# Altium footprint library People Counter.PcbLib: 40 footprints (part 2 of 3)
Each footprint in its own frame and in the unit in brackets; x right, y up, seen from the top. Pads: shape width x height; smd on the part's side, far side on the other; paste and mask are expansions set on the pad; w line width, h text height; cw(c..) or ccw(c..) is an arc to the next point about the centre after c.
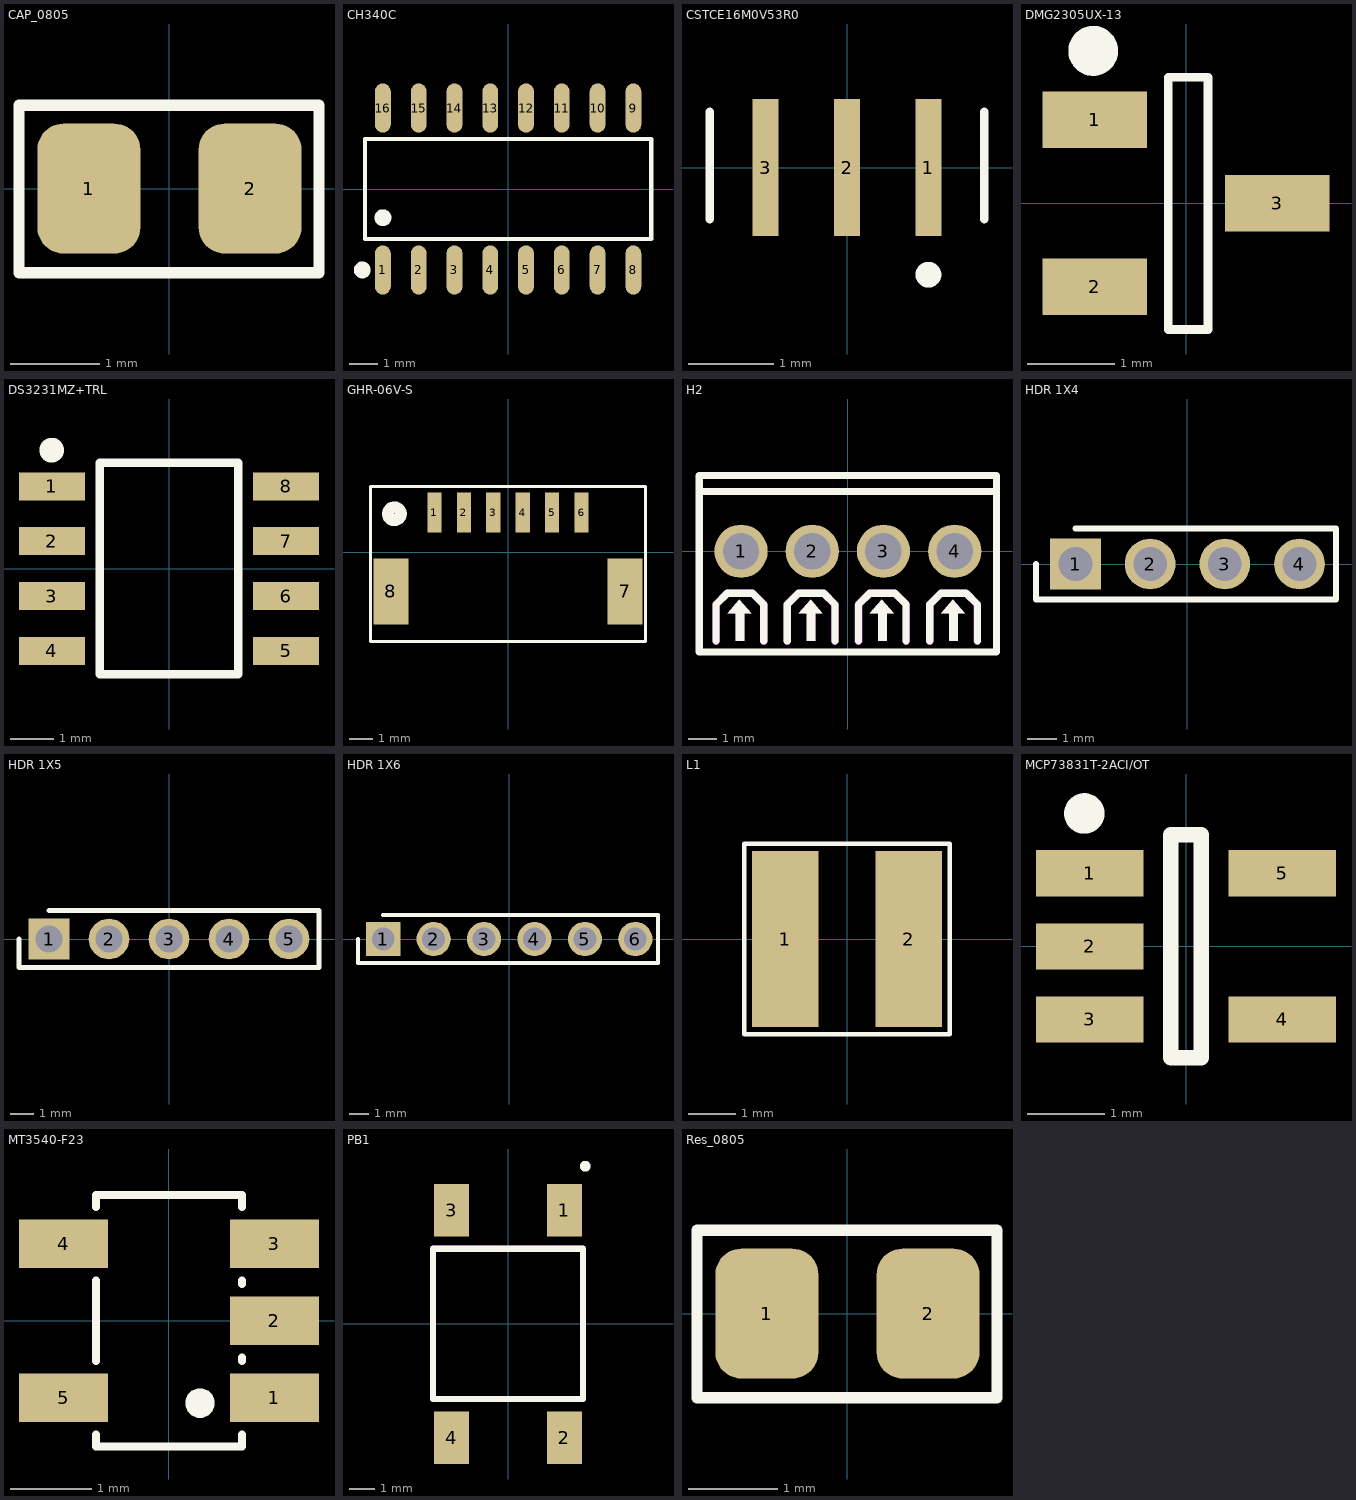
[diagram p1: the footprints below, top view; thin cyan lines are the x and y axes]

## CAP_0805 [mm]
pads (2):
  rrect50% 1.15x1.45 smd: 1(-0.9,0) 2(0.9,0)
Top Overlay:
  lines w0.127: -1.68,-0.94 -1.68,0.93 1.67,0.93 1.67,-0.94 -1.68,-0.94
3D body "CAP0805.stp": height 0.78, standoff 0, extent -1,-0.625 1,0.625

## CH340C [mm]
pads (16):
  oval 0.56x1.745 smd paste+0 mask+0.051: 1(-4.445,-2.872) 2(-3.175,-2.872) 3(-1.905,-2.872) 4(-0.635,-2.872) 5(0.635,-2.872) 6(1.905,-2.872) 7(3.175,-2.872) 8(4.445,-2.872) 9(4.445,2.872) 10(3.175,2.872) 11(1.905,2.872) 12(0.635,2.872) 13(-0.635,2.872) 14(-1.905,2.872) 15(-3.175,2.872) 16(-4.445,2.872)
Top Overlay:
  circle w0.3: c-4.445,-1.019 r0.15
  circle w0.3: c-5.177,-2.872 r0.15
  lines w0.152: -5.076,-1.771 -5.076,1.771 5.076,1.771 5.076,-1.771 -5.076,-1.771

## CSTCE16M0V53R0 [mm]
pads (3):
  rect 0.3x1.6 smd: 1(0.95,0) 2(0,0) 3(-0.95,0)
Top Overlay:
  lines w0.1: -1.6,-0.6 -1.6,0.65 -1.6,-0.6 ; 1.6,-0.6 1.6,0.65 1.6,-0.6
  lines w0.2: 0.95,-1.3 cw(c0.95,-1.25) 0.95,-1.2 ; 0.95,-1.3 ccw(c0.95,-1.25) 0.95,-1.2 ; 0.95,-1.3 cw(c0.95,-1.25) 0.95,-1.2
3D body "CSTCE16M0V53-R0.stp": height 0.9, standoff 0, extent -1.6,-0.65 1.6,0.65

## DMG2305UX-13 [mm]
pads (3):
  rect 1.2x0.65 smd: 1(-1.05,0.96) 2(-1.05,-0.96) 3(1.05,0)
Top Overlay:
  circle w0.3: c-1.067,1.753 r0.137
  lines w0.1: -0.203,-1.45 0.254,-1.45 0.254,1.45 -0.203,1.45 -0.203,-1.45
3D body "DMG2305UX-13.stp": height 1.2, standoff 0, extent -1.2,-1.45 1.2,1.45

## DS3231MZ+TRL [mm]
pads (8):
  rect 1.525x0.65 smd: 1(-2.712,1.905) 2(-2.712,0.635) 3(-2.712,-0.635) 4(-2.712,-1.905) 5(2.712,-1.905) 6(2.712,-0.635) 7(2.712,0.635) 8(2.712,1.905)
Top Overlay:
  circle w0.3: c-2.718,2.743 r0.137
  lines w0.2: -1.6,-2.45 1.6,-2.45 1.6,2.45 -1.6,2.45 -1.6,-2.45
3D body "DS3231MZ+TRL.stp": height 1.75, standoff 0, extent -3,-2.45 3,2.45

## GHR-06V-S [mm]
pads (8):
  rect 0.6x1.7 smd: 1(-3.125,1.675) 2(-1.875,1.675) 3(-0.625,1.675) 4(0.625,1.675) 5(1.875,1.675) 6(3.125,1.675)
  rect 1.5x2.8 smd: 7(4.975,-1.675) 8(-4.975,-1.675)
Top Overlay:
  circle w0.5: c-4.826,1.626 r0.274
  lines w0.127: -5.842,-3.81 -1.016,-3.81 5.842,-3.81 5.842,2.794 -5.842,2.794 -5.842,-3.81
3D body "GHR-06V-S.stp": height 3.6, standoff -0.55, extent -4.426,-3.632 4.324,2.068

## H2 [mm]
pads (4):
  round 1.9 hole 1.3: 1(-3.81,0) 2(-1.27,0) 3(1.27,0) 4(3.81,0)
Top Overlay:
  region: 3.75,-1.735 3.33,-2.205 4.17,-2.205
  region: 3.62,-2.18 3.62,-3.2 3.92,-3.2 3.92,-2.17
  region: 1.21,-1.735 0.79,-2.205 1.63,-2.205
  region: 1.08,-2.18 1.08,-3.2 1.38,-3.2 1.38,-2.17
  region: -1.33,-1.735 -1.75,-2.205 -0.91,-2.205
  region: -1.46,-2.18 -1.46,-3.2 -1.16,-3.2 -1.16,-2.17
  region: -4,-2.18 -4,-3.2 -3.7,-3.2 -3.7,-2.17
  region: -3.87,-1.735 -4.29,-2.205 -3.45,-2.205
  lines w0.254: -5.3,2.136 5.3,2.136 ; -4.7,-3.2 -4.7,-1.9 -4.3,-1.5 -3.4,-1.5 -3,-1.9 -3,-3.2 ; -2.16,-3.2 -2.16,-1.9 -1.76,-1.5 -0.86,-1.5 -0.46,-1.9 -0.46,-3.2 ; 0.38,-3.2 0.38,-1.9 0.78,-1.5 1.68,-1.5 2.08,-1.9 2.08,-3.2 ; 2.92,-3.2 2.92,-1.9 3.32,-1.5 4.22,-1.5 4.62,-1.9 4.62,-3.2 ; -5.3,-3.6 -5.3,2.7 5.3,2.7 5.3,-3.6 -5.3,-3.6
Mechanical 6:
  drawing of 12 lines, arcs and shapes, not listed
Mechanical 15:
  region: -4.16,0.25 -3.46,0.25 -3.46,-0.25 -4.16,-0.25
  region: -1.62,0.25 -0.92,0.25 -0.92,-0.25 -1.62,-0.25
  region: 0.92,0.25 1.62,0.25 1.62,-0.25 0.92,-0.25
  region: 3.46,0.25 4.16,0.25 4.16,-0.25 3.46,-0.25
  region: -5.26,-3.55 -5.26,-3.525 -5.295,-3.49 -5.345,-3.49 -5.38,-3.525 -5.38,-3.55 -5.38,-3.575 -5.345,-3.61 -5.295,-3.61 -5.26,-3.575
  lines w0.051: -5.32,-3.55 5.32,-3.55 5.32,2.7 -5.32,2.7 -5.32,-3.55

## HDR 1X4 [mm]
pads (4):
  rect 1.725x1.725 hole 1.15: 1(-3.81,0)
  round 1.725 hole 1.15: 2(-1.27,0) 3(1.27,0) 4(3.81,0)
Top Overlay:
  lines w0.2: -5.156,0 -5.156,-1.205 5.055,-1.205 5.055,1.205 -3.81,1.205
3D body "HDR 1x4 TH Pitch 2_54mm.STEP": height 9.2, standoff -3.5, extent -5.131,-1.295 5.029,1.245

## HDR 1X5 [mm]
pads (5):
  rect 1.725x1.725 hole 1.15: 1(-5.08,0)
  round 1.725 hole 1.15: 2(-2.54,0) 3(0,0) 4(2.54,0) 5(5.08,0)
Top Overlay:
  lines w0.2: -6.35,0 -6.35,-1.205 6.35,-1.205 6.35,1.205 -5.08,1.205
3D body "10129378-905001BLF.stp": height 8.58, standoff -3.3, extent -6.35,-1.205 6.35,1.205

## HDR 1X6 [mm]
pads (6):
  rect 1.725x1.725 hole 1.15: 1(-6.35,0)
  round 1.725 hole 1.15: 2(-3.81,0) 3(-1.27,0) 4(1.27,0) 5(3.81,0) 6(6.35,0)
Top Overlay:
  lines w0.2: -7.62,0 -7.62,-1.205 7.493,-1.205 7.493,1.205 -6.35,1.205
3D body "10129378-905001BLF.stp": height 8.58, standoff -3.3, extent -7.62,-1.205 5.08,1.205

## L1 [mm]
pads (2):
  rect 1.4x3.7 smd: 1(-1.3,0) 2(1.3,0)
Top Overlay:
  lines w0.1: -2.159,-2 -2.159,2 2.159,2 2.159,-2 -2.159,-2

## MCP73831T-2ACI/OT [mm]
pads (5):
  rect 1.4x0.6 smd: 1(-1.25,0.95) 2(-1.25,0) 3(-1.25,-0.95) 4(1.25,-0.95) 5(1.25,0.95)
Top Overlay:
  circle w0.3: c-1.321,1.727 r0.114
  lines w0.2: -0.2,-1.45 0.2,-1.45 0.2,1.45 -0.2,1.45 -0.2,-1.45
3D body "MCP73831T-2ACI_OT.stp": height 1.45, standoff 0, extent -1.35,-1.45 1.35,1.45

## MT3540-F23 [mm]
pads (5):
  rect 1.1x0.6 smd: 1(1.3,-0.95) 2(1.3,0) 3(1.3,0.95) 4(-1.3,0.95) 5(-1.3,-0.95)
Top Overlay:
  region: 0.204,-1.016 0.204,-0.981 0.23,-0.915 0.28,-0.864 0.346,-0.837 0.416,-0.837 0.482,-0.864 0.532,-0.915 0.558,-0.981 0.558,-1.016 0.558,-1.051 0.532,-1.117 0.482,-1.168 0.416,-1.195 0.346,-1.195 0.28,-1.168 0.23,-1.117 0.204,-1.051
  lines w0.1: -0.9,-1.404 -0.9,-1.55 0.9,-1.55 0.9,-1.404 ; -0.9,-0.496 -0.9,0.496 ; -0.9,1.404 -0.9,1.55 0.9,1.55 0.9,1.404 ; 0.9,-0.496 0.9,-0.454 ; 0.9,0.454 0.9,0.496

## PB1 [mm]
pads (4):
  rect 1.4x2.1 smd: 1(2.25,4.55) 2(2.25,-4.55) 3(-2.25,4.55) 4(-2.25,-4.55)
Top Overlay:
  circle w0.254: c3.092,6.305 r0.089
  lines w0.254: -3,-3 -3,3 3,3 3,-3 -3,-3
Mechanical 13:
  lines w0.254: -3,-3 -3,3 3,3 3,-3 -3,-3
3D body "FSM4JSMATR.stp": height 5.13, standoff 0, extent -3,-5 3,5

## PCBComponent_1 [mm]

## Res_0805 [mm]
pads (2):
  rrect50% 1.15x1.45 smd: 1(-0.9,0) 2(0.9,0)
Top Overlay:
  lines w0.127: -1.68,-0.94 1.67,-0.94 1.67,0.93 -1.68,0.93 -1.68,-0.94
3D body "Resistor_0805_Ohm.step": height 0.52, standoff 0.01, extent -1,-0.625 1,0.625